# EAGLE library part LT3060 (library PowerProducts)
LT-Spice library generated with : ltspice.ulp from: E:/Programme/LTC/LTspiceIV/lib/sym/PowerProducts/LT3070*.asy at 05.10.2012 11:07:38
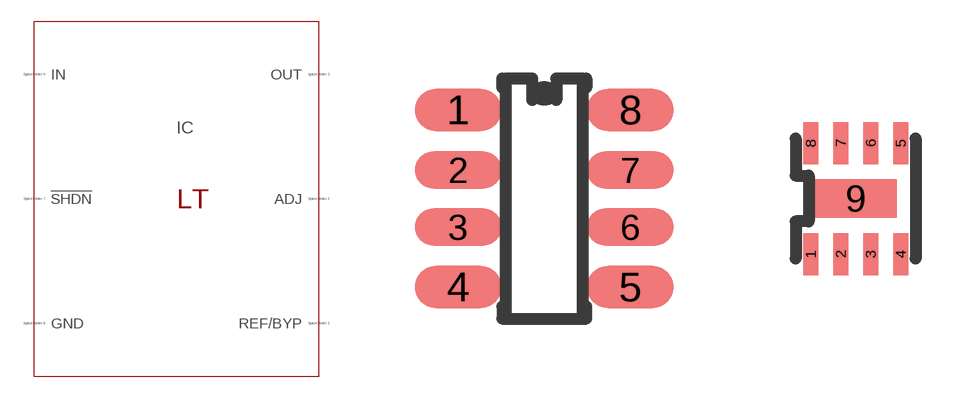
[diagram p28: symbol with the pads of SOT8(TS8); footprints SOT8(TS8), DFN8(DC)]

Designator prefix IC

## LT3060TS8 (SPICEMODEL: LT1762.lib; SPICEPREFIX: X; VALUE2: LT1762)  [SOT8(TS8)]
1  !SHDN  pas
2  GND  pas
3  GND  pas
4  GND  pas
5  IN  pas
6  OUT  pas
7  ADJ  pas
8  REF/BYP  pas

## LT3060 (SPICEMODEL: LT1762.lib; SPICEPREFIX: X; VALUE2: LT1762)  [DFN8(DC)]
1  REF/BYP  pas
2  ADJ  pas
3  OUT  pas
4  OUT  pas
5  IN  pas
6  IN  pas
7  !SHDN  pas
8  GND  pas
9  GND  pas

## Footprint SOT8(TS8) (pad centres in mm)
Package generated from: SOT8(TS8).asc (!PADS-POWERPCB-V5.0-BASIC! DESIGN DATABASE ASCII FILE 1.0) with :import-pads-powerpcb-v5.ulp Version 1.0.1 at 04.10.2012 14:11:36
smd 2.175 x 1.05: 1 -2.152,2.212; 4 -2.152,-2.212; 5 2.152,-2.212; 8 2.152,2.212
smd 2.175 x 0.93: 2 -2.152,0.713; 3 -2.152,-0.713; 6 2.152,-0.713; 7 2.152,0.713

## Footprint DFN8(DC) (pad centres in mm)
Package generated from: DFN8(DC).asc (!PADS-POWERPCB-V5.0-BASIC! DESIGN DATABASE ASCII FILE 1.0) with :import-pads-powerpcb-v5.ulp Version 1.0.1 at 04.10.2012 14:11:17
smd 0.375 x 1.05: 1 -1.125,-1.387; 2 -0.375,-1.387; 3 0.375,-1.387; 4 1.125,-1.387; 5 1.125,1.387; 6 0.375,1.387; 7 -0.375,1.387; 8 -1.125,1.387
smd 2.055 x 0.96: 9 0,0